# Altium footprint library 重要封装_AltiumDesigner6.9.PcbLib: 16 footprints
Each footprint in its own frame and in the unit in brackets; x right, y up, seen from the top. Pads: shape width x height; smd on the part's side, far side on the other; paste and mask are expansions set on the pad; w line width, h text height; cw(c..) or ccw(c..) is an arc to the next point about the centre after c.
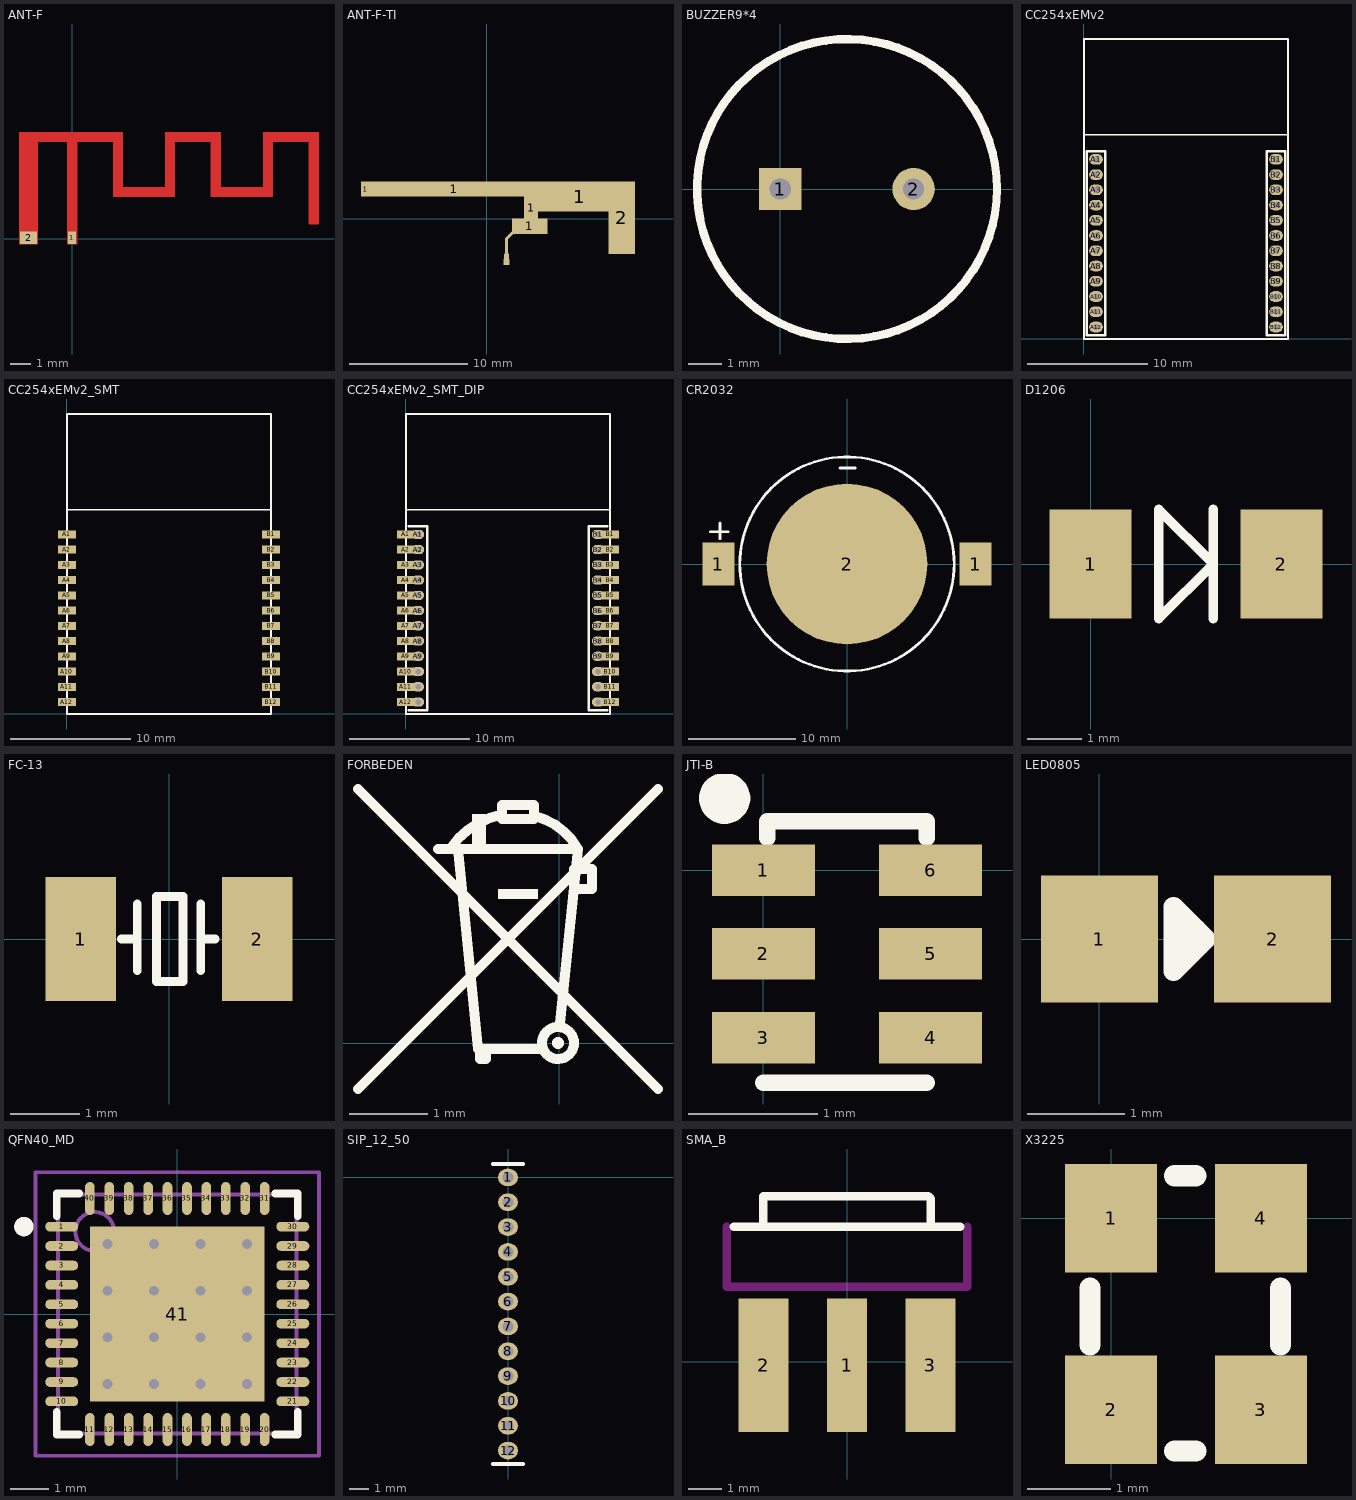
[diagram p0: the footprints below, top view; thin cyan lines are the x and y axes]

## ANT-F [mil]
pads (2):
  rect 15.75x23.62 smd: 1(-1,2)
  rect 31.5x23.62 smd: 2(-83,2)
Top Layer:
  rectangle: 446.24,27.8 465.93,190
  rectangle: 359.63,182.91 465.93,202.6
  rectangle: 359.63,78.98 379.31,190
  rectangle: 272,78.98 370,98.66
  rectangle: 261.2,78.98 280.89,190
  rectangle: 174.59,182.91 280.89,202.6
  rectangle: 174.59,78.98 194.28,190
  rectangle: 86,78.98 186,98.66
  rectangle: 76.17,78.98 95.85,190
  rectangle: -101,182.91 95.85,202.6
  rectangle: -101,-10 -65.57,191
  rectangle: -10.45,-10 9.24,192

## ANT-F-TI [mil]
pads (10):
  rect 31x50 smd paste-60: 1(-404,99)
  rect 560.9x50 smd paste-26: 1(-108.85,99.5)
  oval 16x35 smd paste-35: 1(66,-129.5)
  rect 20x20 smd paste-35: 1(66,-144.5)
  rect 10x50 smd paste-5 mask+4: 1(66,-89.5)
  rect 10x35 smd rot 135 paste-5 mask+4: 1(76.91,-55.66)
  rect 118.83x50.4 smd paste-26: 1(143.77,-24.7)
  rect 47.9x174.4 smd paste-26: 1(147.65,37.3)
  rect 370.8x100 smd paste-51: 1(309.1,74.5)
  rect 88.7x241 smd paste-64: 2(450.15,4)

## BUZZER9*4 [mm]
pads (2):
  rect 1.27x1.27 hole 0.635: 1(0,0)
  round 1.27 hole 0.635: 2(4,0)
Top Overlay:
  circle w0.254: c2,0 r4.5

## CC254xEMv2 [mil]
height 50
pads (24):
  oval 45x35 hole 19: A1(39.54,589.3) A2(39.54,539.3) A3(39.54,489.3) A4(39.54,439.3) A5(39.54,389.3) A6(39.54,339.3) A7(39.54,289.3) A8(39.54,239.3) A9(39.54,189.3) A10(39.54,139.3) A11(39.54,89.3) A12(39.54,39.3) B1(629.91,589.3) B2(629.91,539.3) B3(629.91,489.3) B4(629.91,439.3) B5(629.91,389.3) B6(629.91,339.3) B7(629.91,289.3) B8(629.91,239.3) B9(629.91,189.3) B10(629.91,139.3) B11(629.91,89.3) B12(629.91,39.3)
Top Overlay:
  lines w6: 0,670 666.29,670 ; 669.29,0 0,0 0,984.15 669.29,984.15 669.29,0.79
  lines w8: 9.54,12.3 69.54,12.3 69.54,616.3 9.54,616.3 9.54,12.3 ; 599.91,12.3 659.91,12.3 659.91,616.3 599.91,616.3 599.91,12.3

## CC254xEMv2_SMT [mil]
height 50
pads (24):
  rect 60x26 smd: A1(0,589) A2(0,539) A3(0,489) A4(0,439) A5(0,389) A6(0,339) A7(0,289) A8(0,239) A9(0,189) A10(0,139) A11(0,89) A12(0,39) B1(669.29,589) B2(669.29,539) B3(669.29,489) B4(669.29,439) B5(669.29,389) B6(669.29,339) B7(669.29,289) B8(669.29,239) B9(669.29,189) B10(669.29,139) B11(669.29,89) B12(669.29,39)
Top Overlay:
  lines w6: 0,670 666.29,670 ; 669.29,0 0,0 0,984.15 669.29,984.15 669.29,0.79

## CC254xEMv2_SMT_DIP [mil]
height 50
pads (48):
  rect 60x26 smd: A1(0,589) A2(0,539) A3(0,489) A4(0,439) A5(0,389) A6(0,339) A7(0,289) A8(0,239) A9(0,189) A10(0,139) A11(0,89) A12(0,39) B1(669.29,589) B2(669.29,539) B3(669.29,489) B4(669.29,439) B5(669.29,389) B6(669.29,339) B7(669.29,289) B8(669.29,239) B9(669.29,189) B10(669.29,139) B11(669.29,89) B12(669.29,39)
  oval 40x30 hole 18: A1(39.54,589.3) A2(39.54,539.3) A3(39.54,489.3) A4(39.54,439.3) A5(39.54,389.3) A6(39.54,339.3) A7(39.54,289.3) A8(39.54,239.3) A9(39.54,189.3) A10(39.54,139.3) A11(39.54,89.3) A12(39.54,39.3) B1(629.91,589.3) B2(629.91,539.3) B3(629.91,489.3) B4(629.91,439.3) B5(629.91,389.3) B6(629.91,339.3) B7(629.91,289.3) B8(629.91,239.3) B9(629.91,189.3) B10(629.91,139.3) B11(629.91,89.3) B12(629.91,39.3)
Top Overlay:
  lines w6: 0,670 666.29,670 ; 669.29,0 0,0 0,984.15 669.29,984.15 669.29,0.79
  lines w8: 9.54,12.3 69.54,12.3 69.54,616.3 9.54,616.3 ; 659.91,12.3 599.91,12.3 599.91,616.3 659.91,616.3

## CR2032 [mm]
pads (3):
  rect 3x4 smd: 1(-12,0) 1(12,0)
  round 15 smd: 2(0,0)
Top Overlay:
  circle w0.254: c0,0 r10
  lines w0.254: -12.751,3.023 -11.074,3.023 ; -11.862,2.362 -11.862,3.835 ; -0.66,8.966 0.762,8.966

## D1206 [mm]
pads (2):
  rect 1.5x2 smd: 1(0,0) 2(3.5,0)
Top Overlay:
  lines w0.025: 1.25,1 1.25,1 ; 2.25,0 2.25,0
  lines w0.178: 2.25,-1 2.25,1 ; 1.25,-1 2.25,0 1.25,1 1.25,-1

## FC-13 [mil]
pads (2):
  rect 40x70 smd: 1(-50,0) 2(50,0)
Top Overlay:
  lines w5: -27,0 -18,0 ; -18,-18 -18,20 ; 18,-18 18,20 ; 18,0 26,0 ; -7,-24 8,-24 8,24 -7,24 -7,-24

## FORBEDEN [mil]
Top Overlay:
  circle w5: c-0.5,0 r8
  circle w5: c-0.5,0 r0.5
  rectangle: -30.5,72 -10.5,77
  rectangle: -43.5,97 -36.5,114.5
  lines w5: -100.5,-23 49.5,127 ; -100.5,127 49.5,-23 ; -60.5,97 9.5,97 ; -54.5,97 cw(c-20.5,74) -28.51,114.26 ; -50.5,97 -40.5,-3 -9.5,-3 ; -39.5,-3 -39.5,-8 -36.5,-8 -36.5,-3 ; -12.4,113.52 cw(c-20.5,80) 9.5,97 ; 0.4,10 9.5,97 ; -28.5,112 -28.5,119 -12.5,119 -12.5,112 -28.5,112 ; 7.5,77 16.5,77 16.5,87 7.5,87 7.5,77

## JTI-B [mm]
pads (6):
  rect 0.8x0.4 smd: 1(0,0) 2(0,-0.65) 3(0,-1.3) 4(1.3,-1.3) 5(1.3,-0.65) 6(1.3,0)
Top Overlay:
  circle w0.254: c-0.3,0.559 r0.072
  lines w0.127: 0,-1.651 1.27,-1.651 ; 0.031,0.25 0.031,0.381 1.27,0.381 1.27,0.25

## LED0805 [mm]
pads (2):
  rect 1.2x1.3 smd: 1(0,0) 2(1.778,0)
Top Overlay:
  lines w0.203: 0.762,-0.152 0.762,-0.127 0.991,0.102 ; 0.762,0.025 1.067,0.025 0.914,0.025 ; 0.762,-0.33 1.092,0 0.762,0.33 0.762,-0.33

## QFN40_MD [mm] "QFN, 40-Leads, Body 6.2x6.2mm (max), Pitch 0.50mm, IPC Medium Density"
height 0.8
pads (41):
  oval 0.85x0.25 smd: 1(-2.975,2.25) 2(-2.975,1.75) 3(-2.975,1.25) 4(-2.975,0.75) 5(-2.975,0.25) 6(-2.975,-0.25) 7(-2.975,-0.75) 8(-2.975,-1.25) 9(-2.975,-1.75) 10(-2.975,-2.25) 21(2.975,-2.25) 22(2.975,-1.75) 23(2.975,-1.25) 24(2.975,-0.75) 25(2.975,-0.25) 26(2.975,0.25) 27(2.975,0.75) 28(2.975,1.25) 29(2.975,1.75) 30(2.975,2.25)
  oval 0.25x0.85 smd: 11(-2.25,-2.975) 12(-1.75,-2.975) 13(-1.25,-2.975) 14(-0.75,-2.975) 15(-0.25,-2.975) 16(0.25,-2.975) 17(0.75,-2.975) 18(1.25,-2.975) 19(1.75,-2.975) 20(2.25,-2.975) 31(2.25,2.975) 32(1.75,2.975) 33(1.25,2.975) 34(0.75,2.975) 35(0.25,2.975) 36(-0.25,2.975) 37(-0.75,2.975) 38(-1.25,2.975) 39(-1.75,2.975) 40(-2.25,2.975)
  rect 4.5x4.5 smd: 41(0,0)
via 1.8,-1.8 diameter 0.508 hole 0.254
via 0.6,-1.8 diameter 0.508 hole 0.254
via -0.6,-1.8 diameter 0.508 hole 0.254
via -1.8,-1.8 diameter 0.508 hole 0.254
via 1.8,-0.6 diameter 0.508 hole 0.254
via 0.6,-0.6 diameter 0.508 hole 0.254
via -0.6,-0.6 diameter 0.508 hole 0.254
via -1.8,-0.6 diameter 0.508 hole 0.254
via 1.8,0.6 diameter 0.508 hole 0.254
via 0.6,0.6 diameter 0.508 hole 0.254
via -0.6,0.6 diameter 0.508 hole 0.254
via -1.8,0.6 diameter 0.508 hole 0.254
via 1.8,1.8 diameter 0.508 hole 0.254
via 0.6,1.8 diameter 0.508 hole 0.254
via -0.6,1.8 diameter 0.508 hole 0.254
via -1.8,1.8 diameter 0.508 hole 0.254
Top Overlay:
  circle w0.25: c-3.95,2.25 r0.125
  lines w0.2: -3.1,-2.525 -3.1,-3.1 -2.525,-3.1 ; -3.1,2.525 -3.1,3.1 -2.525,3.1 ; 2.525,-3.1 3.1,-3.1 3.1,-2.525 ; 2.525,3.1 3.1,3.1 3.1,2.525
Mechanical 13:
  circle w0.1: c-2.125,2.125 r0.5
  lines w0.1: -3.075,-3.075 3.075,-3.075 3.075,3.075 -3.075,3.075 -3.075,-3.075
Mechanical 15:
  lines w0.1: -0.5,0 0.5,0 ; 0,-0.5 0,0.5 ; -3.65,-3.65 3.65,-3.65 3.65,3.65 -3.65,3.65 -3.65,-3.65
3D body: height 0.8, standoff 0.01, extent -3.075,-3.075 3.075,3.075

## SIP_12_50 [mil]
height 78.74
pads (12):
  oval 40x35 hole 22: 1(0,0) 2(0,-50) 3(0,-100) 4(0,-150) 5(0,-200) 6(0,-250) 7(0,-300) 8(0,-350) 9(0,-400) 10(0,-450) 11(0,-500) 12(0,-550)
Top Overlay:
  lines w8: -30,-577 30,-577 ; -30,27 30,27

## SMA_B [mm]
pads (3):
  rect 1.2x4 smd: 1(0,-0.1)
  rect 1.5x4 all layers, no hole: 2(-2.5,-0.1) 3(2.5,-0.1)
Top Overlay:
  lines w0.254: -3.4,4.061 3.4,4.061 ; -3.048,4.061 -3.023,4.061 ; -2.515,4.061 -2.518,4.064 -2.518,4.978 2.442,4.978 2.518,4.902 2.518,4.089 ; 3.023,4.061 3.048,4.061
Keep-Out Layer:
  lines w0.254: -3.607,4.061 -3.607,2.261 3.607,2.261 3.607,4.061

## X3225 [mm]
pads (4):
  rect 1.1x1.3 smd: 1(0,0) 2(0,-2.3) 3(1.8,-2.3) 4(1.8,0)
Top Overlay:
  lines w0.254: -0.254,-1.524 -0.254,-0.838 ; 0.762,-2.794 1.016,-2.794 ; 0.762,0.508 1.016,0.508 ; 2.032,-1.524 2.032,-0.838